# Altium footprint library Telemetry_rev3.PcbLib: 18 footprints (part 2 of 2)
Each footprint in its own frame and in the unit in brackets; x right, y up, seen from the top. Pads: shape width x height; smd on the part's side, far side on the other; paste and mask are expansions set on the pad; w line width, h text height; cw(c..) or ccw(c..) is an arc to the next point about the centre after c.
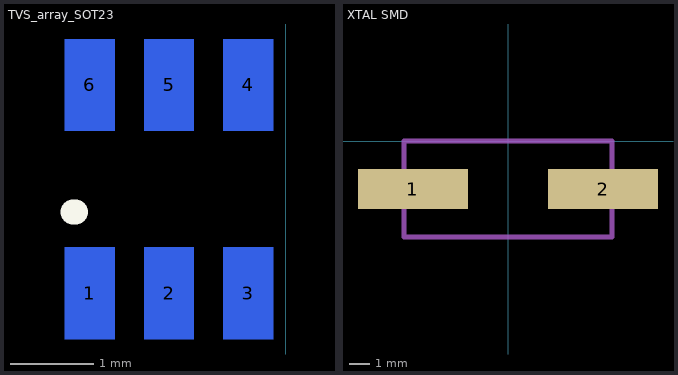
[diagram p1: the footprints below, top view; thin cyan lines are the x and y axes]

## TVS_array_SOT23 [mm]
pads (6):
  rect 0.6x1.1 smd far side: 1(-2.35,0.8) 2(-1.4,0.8) 3(-0.45,0.8) 4(-0.45,3.3) 5(-1.4,3.3) 6(-2.35,3.3)
Top Overlay:
  lines w0.3: -2.55,1.775 -2.525,1.775

## XTAL SMD [mm]
height 3.8
pads (2):
  rect 5.5x2 smd: 1(-4.75,-2.4) 2(4.75,-2.4)
Mechanical 15:
  lines w0.254: -5.2,-4.8 5.2,-4.8 5.2,0 0,0 -5.2,0 -5.2,-4.8